# EAGLE library part LGA16 (library Bits_library_eagle)
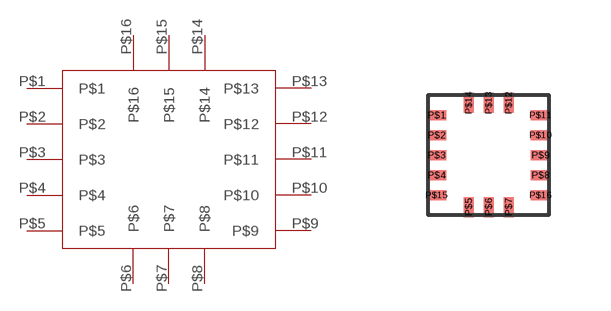
[diagram p67: symbol with the pads of LGA-16; footprint LGA-16]

Designator prefix -

## LGA16  [LGA-16]
P$1  P$1
P$2  P$2
P$3  P$3
P$4  P$4
P$5  P$5
P$6  P$6
P$7  P$7
P$8  P$8
P$9  P$9
P$10  P$10
P$11  P$11
P$12  P$12
P$13  P$13
P$14  P$14
P$15  P$15
P$16  P$16

## Footprint LGA-16 (pad centres in mm)
smd 0.5 x 0.25: P$1 -1.3,1; P$2 -1.3,0.5; P$3 -1.3,0; P$4 -1.3,-0.5; P$8 1.3,-0.5; P$9 1.3,0; P$10 1.3,0.5; P$11 1.3,1; P$15 -1.3,-1; P$16 1.3,-1
smd 0.25 x 0.5: P$5 -0.5,-1.3; P$6 0,-1.3; P$7 0.5,-1.3; P$12 0.5,1.3; P$13 0,1.3; P$14 -0.5,1.3